# Altium schematic symbol library SCH - IC-RTC - DS3231.SchLib: 1 symbol
Pins are listed as number, name and electrical type; pins without a type are passive.

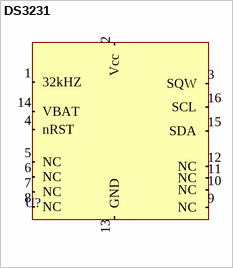
[diagram p0: symbol DS3231]

## DS3231
designator U?
pins: 1 32kHZ, 2 Vcc (power), 3 SQW, 4 nRST (in), 5 NC, 6 NC, 7 NC, 8 NC, 9 NC, 10 NC, 11 NC, 12 NC, 13 GND (power), 14 VBAT (power), 15 SDA (io), 16 SCL (io)